# Altium footprint library Connector_Molex_Milligrid.PcbLib: 55 footprints (part 2 of 4)
Each footprint in its own frame and in the unit in brackets; x right, y up, seen from the top. Pads: shape width x height; smd on the part's side, far side on the other; paste and mask are expansions set on the pad; w line width, h text height; cw(c..) or ccw(c..) is an arc to the next point about the centre after c.
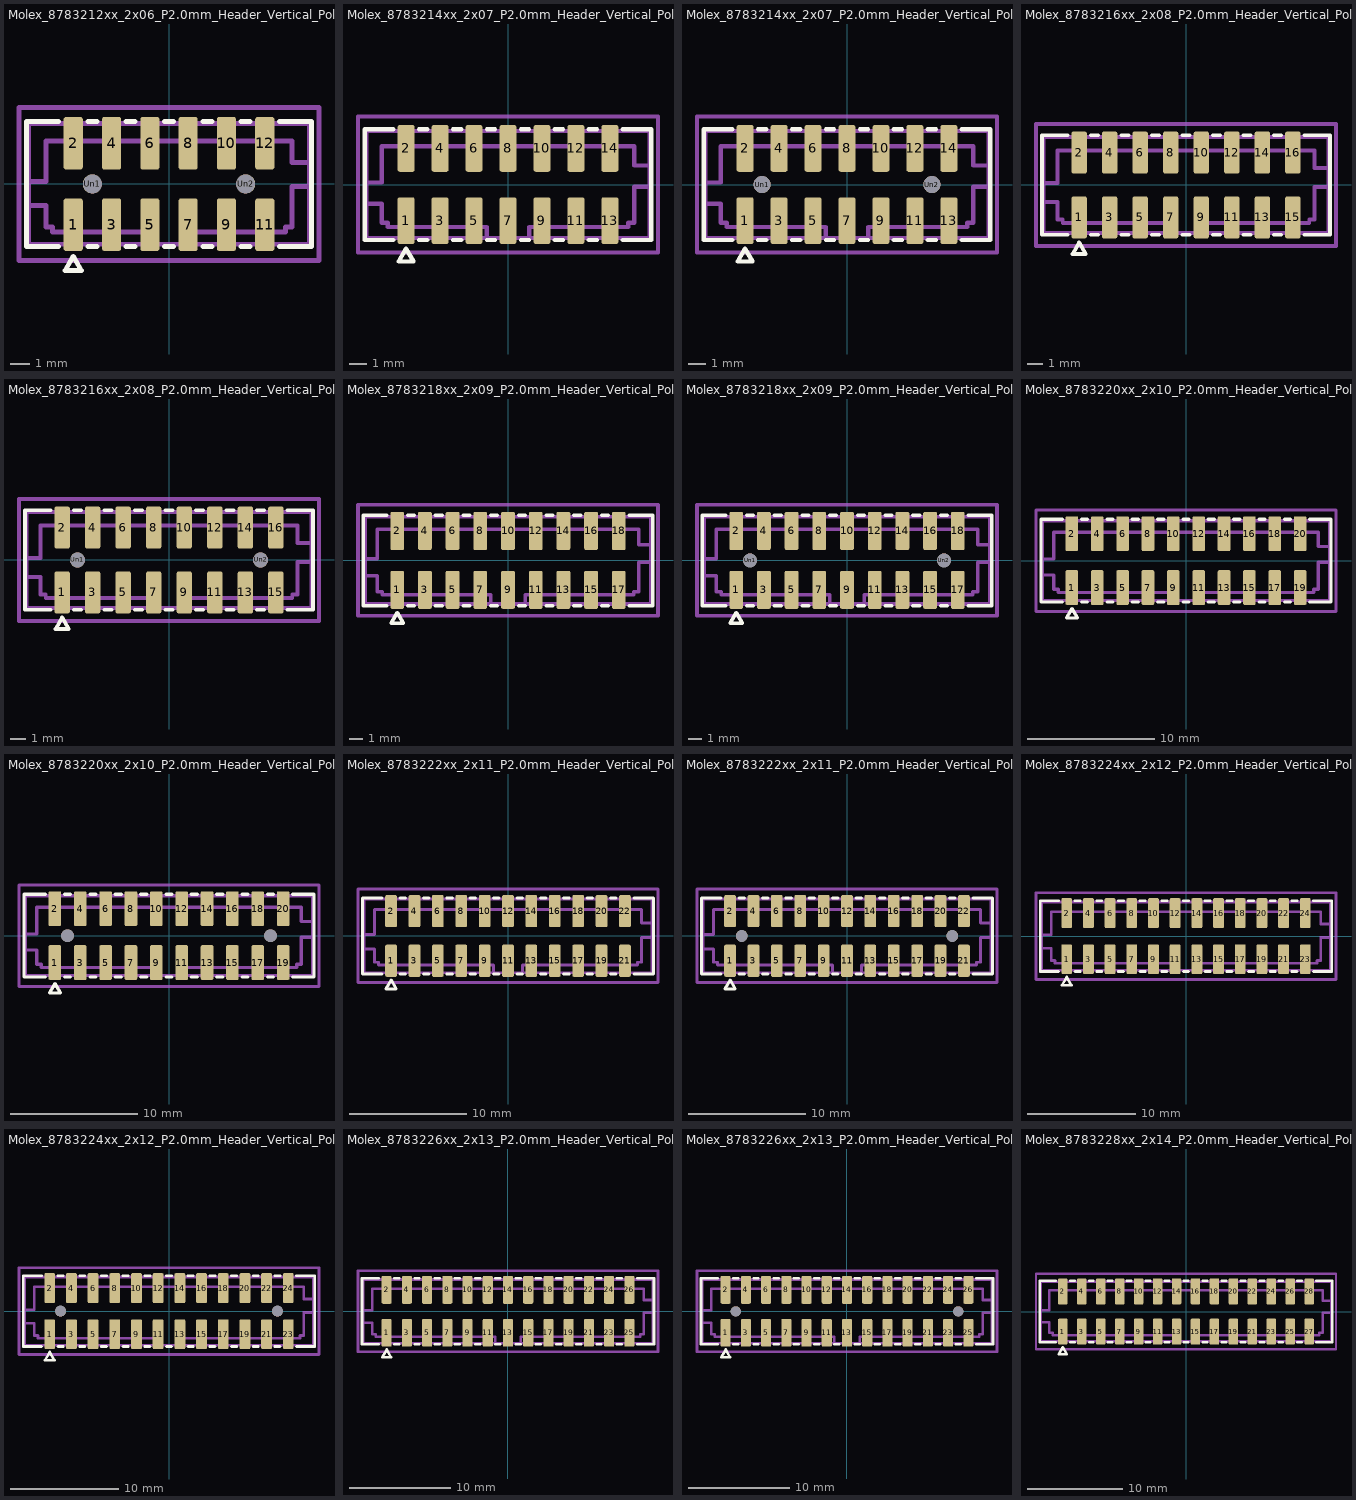
[diagram p1: the footprints below, top view; thin cyan lines are the x and y axes]

## Molex_8783212xx_2x06_P2.0mm_Header_Vertical_Polarized_MountingPegs [mm]
pads (14):
  rrect25% 1x2.75 smd: 1(-5,-2.125) 2(-5,2.125) 3(-3,-2.125) 4(-3,2.125) 5(-1,-2.125) 6(-1,2.125) 7(1,-2.125) 8(1,2.125) 9(3,-2.125) 10(3,2.125) 11(5,-2.125) 12(5,2.125)
  round 1 hole 1: Un1(-4,0) Un2(4,0)
F.SilkS:
  lines w0.254: -5.76,-3.26 -7.435,-3.26 -7.435,3.26 -5.76,3.26 ; -4.24,-3.26 -3.76,-3.26 ; -4.24,3.26 -3.76,3.26 ; -2.24,-3.26 -1.76,-3.26 ; -2.24,3.26 -1.76,3.26 ; -0.24,-3.26 0.24,-3.26 ; -0.24,3.26 0.24,3.26 ; 1.76,-3.26 2.24,-3.26 ; 1.76,3.26 2.24,3.26 ; 3.76,-3.26 4.24,-3.26 ; 3.76,3.26 4.24,3.26 ; 5.76,-3.26 7.435,-3.26 7.435,3.26 5.76,3.26 ; -5.433,-4.525 -4.567,-4.525 -5,-3.775 -5.433,-4.525
Top Assembly:
  lines w0.254: -7.325,-1.125 -6.425,-1.125 -6.425,-2.25 -6.075,-2.25 -6.075,-2.5 -1.25,-2.5 -1.25,-3.15 ; -7.325,0.125 -6.425,0.125 -6.425,2.25 6.425,2.25 6.425,1.125 7.325,1.125 ; -5.325,-3.15 -5,-2.5 -4.675,-3.15 ; 1.25,-3.15 1.25,-2.5 6.075,-2.5 6.075,-2.25 6.425,-2.25 6.425,-0.125 7.325,-0.125 ; -7.325,-3.15 7.325,-3.15 7.325,3.15 -7.325,3.15 -7.325,-3.15
  text "'.Designator'" at -4.047,-0.84 h1
Top Courtyard:
  lines w0.254: -7.83,-4 7.83,-4 7.83,4 -7.83,4 -7.83,-4
Top Designator:
  text ".Designator" at -7.618,-0.77 h1.52

## Molex_8783214xx_2x07_P2.0mm_Header_Vertical_Polarized [mm]
pads (14):
  rrect25% 1x2.75 smd: 1(-6,-2.125) 2(-6,2.125) 3(-4,-2.125) 4(-4,2.125) 5(-2,-2.125) 6(-2,2.125) 7(0,-2.125) 8(0,2.125) 9(2,-2.125) 10(2,2.125) 11(4,-2.125) 12(4,2.125) 13(6,-2.125) 14(6,2.125)
F.SilkS:
  lines w0.254: -6.76,-3.26 -8.435,-3.26 -8.435,3.26 -6.76,3.26 ; -5.24,-3.26 -4.76,-3.26 ; -5.24,3.26 -4.76,3.26 ; -3.24,-3.26 -2.76,-3.26 ; -3.24,3.26 -2.76,3.26 ; -1.24,-3.26 -0.76,-3.26 ; -1.24,3.26 -0.76,3.26 ; 0.76,-3.26 1.24,-3.26 ; 0.76,3.26 1.24,3.26 ; 2.76,-3.26 3.24,-3.26 ; 2.76,3.26 3.24,3.26 ; 4.76,-3.26 5.24,-3.26 ; 4.76,3.26 5.24,3.26 ; 6.76,-3.26 8.435,-3.26 8.435,3.26 6.76,3.26 ; -6.433,-4.525 -5.567,-4.525 -6,-3.775 -6.433,-4.525
Top Assembly:
  lines w0.254: -8.325,-1.125 -7.425,-1.125 -7.425,-2.25 -7.075,-2.25 -7.075,-2.5 -1.25,-2.5 -1.25,-3.15 ; -8.325,0.125 -7.425,0.125 -7.425,2.25 7.425,2.25 7.425,1.125 8.325,1.125 ; -6.325,-3.15 -6,-2.5 -5.675,-3.15 ; 1.25,-3.15 1.25,-2.5 7.075,-2.5 7.075,-2.25 7.425,-2.25 7.425,-0.125 8.325,-0.125 ; -8.325,-3.15 8.325,-3.15 8.325,3.15 -8.325,3.15 -8.325,-3.15
  text "'.Designator'" at -4.047,-0.84 h1
Top Courtyard:
  lines w0.254: -8.83,-4 8.83,-4 8.83,4 -8.83,4 -8.83,-4
Top Designator:
  text ".Designator" at -7.618,-0.77 h1.52

## Molex_8783214xx_2x07_P2.0mm_Header_Vertical_Polarized_MountingPegs [mm]
pads (16):
  rrect25% 1x2.75 smd: 1(-6,-2.125) 2(-6,2.125) 3(-4,-2.125) 4(-4,2.125) 5(-2,-2.125) 6(-2,2.125) 7(0,-2.125) 8(0,2.125) 9(2,-2.125) 10(2,2.125) 11(4,-2.125) 12(4,2.125) 13(6,-2.125) 14(6,2.125)
  round 1 hole 1: Un1(-5,0) Un2(5,0)
F.SilkS:
  lines w0.254: -6.76,-3.26 -8.435,-3.26 -8.435,3.26 -6.76,3.26 ; -5.24,-3.26 -4.76,-3.26 ; -5.24,3.26 -4.76,3.26 ; -3.24,-3.26 -2.76,-3.26 ; -3.24,3.26 -2.76,3.26 ; -1.24,-3.26 -0.76,-3.26 ; -1.24,3.26 -0.76,3.26 ; 0.76,-3.26 1.24,-3.26 ; 0.76,3.26 1.24,3.26 ; 2.76,-3.26 3.24,-3.26 ; 2.76,3.26 3.24,3.26 ; 4.76,-3.26 5.24,-3.26 ; 4.76,3.26 5.24,3.26 ; 6.76,-3.26 8.435,-3.26 8.435,3.26 6.76,3.26 ; -6.433,-4.525 -5.567,-4.525 -6,-3.775 -6.433,-4.525
Top Assembly:
  lines w0.254: -8.325,-1.125 -7.425,-1.125 -7.425,-2.25 -7.075,-2.25 -7.075,-2.5 -1.25,-2.5 -1.25,-3.15 ; -8.325,0.125 -7.425,0.125 -7.425,2.25 7.425,2.25 7.425,1.125 8.325,1.125 ; -6.325,-3.15 -6,-2.5 -5.675,-3.15 ; 1.25,-3.15 1.25,-2.5 7.075,-2.5 7.075,-2.25 7.425,-2.25 7.425,-0.125 8.325,-0.125 ; -8.325,-3.15 8.325,-3.15 8.325,3.15 -8.325,3.15 -8.325,-3.15
  text "'.Designator'" at -4.047,-0.84 h1
Top Courtyard:
  lines w0.254: -8.83,-4 8.83,-4 8.83,4 -8.83,4 -8.83,-4
Top Designator:
  text ".Designator" at -7.618,-0.77 h1.52

## Molex_8783216xx_2x08_P2.0mm_Header_Vertical_Polarized [mm]
pads (16):
  rrect25% 1x2.75 smd: 1(-7,-2.125) 2(-7,2.125) 3(-5,-2.125) 4(-5,2.125) 5(-3,-2.125) 6(-3,2.125) 7(-1,-2.125) 8(-1,2.125) 9(1,-2.125) 10(1,2.125) 11(3,-2.125) 12(3,2.125) 13(5,-2.125) 14(5,2.125) 15(7,-2.125) 16(7,2.125)
F.SilkS:
  lines w0.254: -7.76,-3.26 -9.435,-3.26 -9.435,3.26 -7.76,3.26 ; -6.24,-3.26 -5.76,-3.26 ; -6.24,3.26 -5.76,3.26 ; -4.24,-3.26 -3.76,-3.26 ; -4.24,3.26 -3.76,3.26 ; -2.24,-3.26 -1.76,-3.26 ; -2.24,3.26 -1.76,3.26 ; -0.24,-3.26 0.24,-3.26 ; -0.24,3.26 0.24,3.26 ; 1.76,-3.26 2.24,-3.26 ; 1.76,3.26 2.24,3.26 ; 3.76,-3.26 4.24,-3.26 ; 3.76,3.26 4.24,3.26 ; 5.76,-3.26 6.24,-3.26 ; 5.76,3.26 6.24,3.26 ; 7.76,-3.26 9.435,-3.26 9.435,3.26 7.76,3.26 ; -7.433,-4.525 -6.567,-4.525 -7,-3.775 -7.433,-4.525
Top Assembly:
  lines w0.254: -9.325,-1.125 -8.425,-1.125 -8.425,-2.25 -8.075,-2.25 -8.075,-2.5 -1.25,-2.5 -1.25,-3.15 ; -9.325,0.125 -8.425,0.125 -8.425,2.25 8.425,2.25 8.425,1.125 9.325,1.125 ; -7.325,-3.15 -7,-2.5 -6.675,-3.15 ; 1.25,-3.15 1.25,-2.5 8.075,-2.5 8.075,-2.25 8.425,-2.25 8.425,-0.125 9.325,-0.125 ; -9.325,-3.15 9.325,-3.15 9.325,3.15 -9.325,3.15 -9.325,-3.15
  text "'.Designator'" at -4.047,-0.84 h1
Top Courtyard:
  lines w0.254: -9.83,-4 9.83,-4 9.83,4 -9.83,4 -9.83,-4
Top Designator:
  text ".Designator" at -7.618,-0.77 h1.52

## Molex_8783216xx_2x08_P2.0mm_Header_Vertical_Polarized_MountingPegs [mm]
pads (18):
  rrect25% 1x2.75 smd: 1(-7,-2.125) 2(-7,2.125) 3(-5,-2.125) 4(-5,2.125) 5(-3,-2.125) 6(-3,2.125) 7(-1,-2.125) 8(-1,2.125) 9(1,-2.125) 10(1,2.125) 11(3,-2.125) 12(3,2.125) 13(5,-2.125) 14(5,2.125) 15(7,-2.125) 16(7,2.125)
  round 1 hole 1: Un1(-6,0) Un2(6,0)
F.SilkS:
  lines w0.254: -7.76,-3.26 -9.435,-3.26 -9.435,3.26 -7.76,3.26 ; -6.24,-3.26 -5.76,-3.26 ; -6.24,3.26 -5.76,3.26 ; -4.24,-3.26 -3.76,-3.26 ; -4.24,3.26 -3.76,3.26 ; -2.24,-3.26 -1.76,-3.26 ; -2.24,3.26 -1.76,3.26 ; -0.24,-3.26 0.24,-3.26 ; -0.24,3.26 0.24,3.26 ; 1.76,-3.26 2.24,-3.26 ; 1.76,3.26 2.24,3.26 ; 3.76,-3.26 4.24,-3.26 ; 3.76,3.26 4.24,3.26 ; 5.76,-3.26 6.24,-3.26 ; 5.76,3.26 6.24,3.26 ; 7.76,-3.26 9.435,-3.26 9.435,3.26 7.76,3.26 ; -7.433,-4.525 -6.567,-4.525 -7,-3.775 -7.433,-4.525
Top Assembly:
  lines w0.254: -9.325,-1.125 -8.425,-1.125 -8.425,-2.25 -8.075,-2.25 -8.075,-2.5 -1.25,-2.5 -1.25,-3.15 ; -9.325,0.125 -8.425,0.125 -8.425,2.25 8.425,2.25 8.425,1.125 9.325,1.125 ; -7.325,-3.15 -7,-2.5 -6.675,-3.15 ; 1.25,-3.15 1.25,-2.5 8.075,-2.5 8.075,-2.25 8.425,-2.25 8.425,-0.125 9.325,-0.125 ; -9.325,-3.15 9.325,-3.15 9.325,3.15 -9.325,3.15 -9.325,-3.15
  text "'.Designator'" at -4.047,-0.84 h1
Top Courtyard:
  lines w0.254: -9.83,-4 9.83,-4 9.83,4 -9.83,4 -9.83,-4
Top Designator:
  text ".Designator" at -7.618,-0.77 h1.52

## Molex_8783218xx_2x09_P2.0mm_Header_Vertical_Polarized [mm]
pads (18):
  rrect25% 1x2.75 smd: 1(-8,-2.125) 2(-8,2.125) 3(-6,-2.125) 4(-6,2.125) 5(-4,-2.125) 6(-4,2.125) 7(-2,-2.125) 8(-2,2.125) 9(0,-2.125) 10(0,2.125) 11(2,-2.125) 12(2,2.125) 13(4,-2.125) 14(4,2.125) 15(6,-2.125) 16(6,2.125) 17(8,-2.125) 18(8,2.125)
F.SilkS:
  lines w0.254: -8.76,-3.26 -10.435,-3.26 -10.435,3.26 -8.76,3.26 ; -7.24,-3.26 -6.76,-3.26 ; -7.24,3.26 -6.76,3.26 ; -5.24,-3.26 -4.76,-3.26 ; -5.24,3.26 -4.76,3.26 ; -3.24,-3.26 -2.76,-3.26 ; -3.24,3.26 -2.76,3.26 ; -1.24,-3.26 -0.76,-3.26 ; -1.24,3.26 -0.76,3.26 ; 0.76,-3.26 1.24,-3.26 ; 0.76,3.26 1.24,3.26 ; 2.76,-3.26 3.24,-3.26 ; 2.76,3.26 3.24,3.26 ; 4.76,-3.26 5.24,-3.26 ; 4.76,3.26 5.24,3.26 ; 6.76,-3.26 7.24,-3.26 ; 6.76,3.26 7.24,3.26 ; 8.76,-3.26 10.435,-3.26 10.435,3.26 8.76,3.26 ; -8.433,-4.525 -7.567,-4.525 -8,-3.775 -8.433,-4.525
Top Assembly:
  lines w0.254: -10.325,-1.125 -9.425,-1.125 -9.425,-2.25 -9.075,-2.25 -9.075,-2.5 -1.25,-2.5 -1.25,-3.15 ; -10.325,0.125 -9.425,0.125 -9.425,2.25 9.425,2.25 9.425,1.125 10.325,1.125 ; -8.325,-3.15 -8,-2.5 -7.675,-3.15 ; 1.25,-3.15 1.25,-2.5 9.075,-2.5 9.075,-2.25 9.425,-2.25 9.425,-0.125 10.325,-0.125 ; -10.325,-3.15 10.325,-3.15 10.325,3.15 -10.325,3.15 -10.325,-3.15
  text "'.Designator'" at -4.047,-0.84 h1
Top Courtyard:
  lines w0.254: -10.83,-4 10.83,-4 10.83,4 -10.83,4 -10.83,-4
Top Designator:
  text ".Designator" at -7.618,-0.77 h1.52

## Molex_8783218xx_2x09_P2.0mm_Header_Vertical_Polarized_MountingPegs [mm]
pads (20):
  rrect25% 1x2.75 smd: 1(-8,-2.125) 2(-8,2.125) 3(-6,-2.125) 4(-6,2.125) 5(-4,-2.125) 6(-4,2.125) 7(-2,-2.125) 8(-2,2.125) 9(0,-2.125) 10(0,2.125) 11(2,-2.125) 12(2,2.125) 13(4,-2.125) 14(4,2.125) 15(6,-2.125) 16(6,2.125) 17(8,-2.125) 18(8,2.125)
  round 1 hole 1: Un1(-7,0) Un2(7,0)
F.SilkS:
  lines w0.254: -8.76,-3.26 -10.435,-3.26 -10.435,3.26 -8.76,3.26 ; -7.24,-3.26 -6.76,-3.26 ; -7.24,3.26 -6.76,3.26 ; -5.24,-3.26 -4.76,-3.26 ; -5.24,3.26 -4.76,3.26 ; -3.24,-3.26 -2.76,-3.26 ; -3.24,3.26 -2.76,3.26 ; -1.24,-3.26 -0.76,-3.26 ; -1.24,3.26 -0.76,3.26 ; 0.76,-3.26 1.24,-3.26 ; 0.76,3.26 1.24,3.26 ; 2.76,-3.26 3.24,-3.26 ; 2.76,3.26 3.24,3.26 ; 4.76,-3.26 5.24,-3.26 ; 4.76,3.26 5.24,3.26 ; 6.76,-3.26 7.24,-3.26 ; 6.76,3.26 7.24,3.26 ; 8.76,-3.26 10.435,-3.26 10.435,3.26 8.76,3.26 ; -8.433,-4.525 -7.567,-4.525 -8,-3.775 -8.433,-4.525
Top Assembly:
  lines w0.254: -10.325,-1.125 -9.425,-1.125 -9.425,-2.25 -9.075,-2.25 -9.075,-2.5 -1.25,-2.5 -1.25,-3.15 ; -10.325,0.125 -9.425,0.125 -9.425,2.25 9.425,2.25 9.425,1.125 10.325,1.125 ; -8.325,-3.15 -8,-2.5 -7.675,-3.15 ; 1.25,-3.15 1.25,-2.5 9.075,-2.5 9.075,-2.25 9.425,-2.25 9.425,-0.125 10.325,-0.125 ; -10.325,-3.15 10.325,-3.15 10.325,3.15 -10.325,3.15 -10.325,-3.15
  text "'.Designator'" at -4.047,-0.84 h1
Top Courtyard:
  lines w0.254: -10.83,-4 10.83,-4 10.83,4 -10.83,4 -10.83,-4
Top Designator:
  text ".Designator" at -7.618,-0.77 h1.52

## Molex_8783220xx_2x10_P2.0mm_Header_Vertical_Polarized [mm]
pads (20):
  rrect25% 1x2.75 smd: 1(-9,-2.125) 2(-9,2.125) 3(-7,-2.125) 4(-7,2.125) 5(-5,-2.125) 6(-5,2.125) 7(-3,-2.125) 8(-3,2.125) 9(-1,-2.125) 10(-1,2.125) 11(1,-2.125) 12(1,2.125) 13(3,-2.125) 14(3,2.125) 15(5,-2.125) 16(5,2.125) 17(7,-2.125) 18(7,2.125) 19(9,-2.125) 20(9,2.125)
F.SilkS:
  lines w0.254: -9.76,-3.26 -11.435,-3.26 -11.435,3.26 -9.76,3.26 ; -8.24,-3.26 -7.76,-3.26 ; -8.24,3.26 -7.76,3.26 ; -6.24,-3.26 -5.76,-3.26 ; -6.24,3.26 -5.76,3.26 ; -4.24,-3.26 -3.76,-3.26 ; -4.24,3.26 -3.76,3.26 ; -2.24,-3.26 -1.76,-3.26 ; -2.24,3.26 -1.76,3.26 ; -0.24,-3.26 0.24,-3.26 ; -0.24,3.26 0.24,3.26 ; 1.76,-3.26 2.24,-3.26 ; 1.76,3.26 2.24,3.26 ; 3.76,-3.26 4.24,-3.26 ; 3.76,3.26 4.24,3.26 ; 5.76,-3.26 6.24,-3.26 ; 5.76,3.26 6.24,3.26 ; 7.76,-3.26 8.24,-3.26 ; 7.76,3.26 8.24,3.26 ; 9.76,-3.26 11.435,-3.26 11.435,3.26 9.76,3.26 ; -9.433,-4.525 -8.567,-4.525 -9,-3.775 -9.433,-4.525
Top Assembly:
  lines w0.254: -11.325,-1.125 -10.425,-1.125 -10.425,-2.25 -10.075,-2.25 -10.075,-2.5 -1.25,-2.5 -1.25,-3.15 ; -11.325,0.125 -10.425,0.125 -10.425,2.25 10.425,2.25 10.425,1.125 11.325,1.125 ; -9.325,-3.15 -9,-2.5 -8.675,-3.15 ; 1.25,-3.15 1.25,-2.5 10.075,-2.5 10.075,-2.25 10.425,-2.25 10.425,-0.125 11.325,-0.125 ; -11.325,-3.15 11.325,-3.15 11.325,3.15 -11.325,3.15 -11.325,-3.15
  text "'.Designator'" at -4.047,-0.84 h1
Top Courtyard:
  lines w0.254: -11.83,-4 11.83,-4 11.83,4 -11.83,4 -11.83,-4
Top Designator:
  text ".Designator" at -7.618,-0.77 h1.52

## Molex_8783220xx_2x10_P2.0mm_Header_Vertical_Polarized_MountingPegs [mm]
pads (22):
  rrect25% 1x2.75 smd: 1(-9,-2.125) 2(-9,2.125) 3(-7,-2.125) 4(-7,2.125) 5(-5,-2.125) 6(-5,2.125) 7(-3,-2.125) 8(-3,2.125) 9(-1,-2.125) 10(-1,2.125) 11(1,-2.125) 12(1,2.125) 13(3,-2.125) 14(3,2.125) 15(5,-2.125) 16(5,2.125) 17(7,-2.125) 18(7,2.125) 19(9,-2.125) 20(9,2.125)
  round 1 hole 1: Un1(-8,0) Un2(8,0)
F.SilkS:
  lines w0.254: -9.76,-3.26 -11.435,-3.26 -11.435,3.26 -9.76,3.26 ; -8.24,-3.26 -7.76,-3.26 ; -8.24,3.26 -7.76,3.26 ; -6.24,-3.26 -5.76,-3.26 ; -6.24,3.26 -5.76,3.26 ; -4.24,-3.26 -3.76,-3.26 ; -4.24,3.26 -3.76,3.26 ; -2.24,-3.26 -1.76,-3.26 ; -2.24,3.26 -1.76,3.26 ; -0.24,-3.26 0.24,-3.26 ; -0.24,3.26 0.24,3.26 ; 1.76,-3.26 2.24,-3.26 ; 1.76,3.26 2.24,3.26 ; 3.76,-3.26 4.24,-3.26 ; 3.76,3.26 4.24,3.26 ; 5.76,-3.26 6.24,-3.26 ; 5.76,3.26 6.24,3.26 ; 7.76,-3.26 8.24,-3.26 ; 7.76,3.26 8.24,3.26 ; 9.76,-3.26 11.435,-3.26 11.435,3.26 9.76,3.26 ; -9.433,-4.525 -8.567,-4.525 -9,-3.775 -9.433,-4.525
Top Assembly:
  lines w0.254: -11.325,-1.125 -10.425,-1.125 -10.425,-2.25 -10.075,-2.25 -10.075,-2.5 -1.25,-2.5 -1.25,-3.15 ; -11.325,0.125 -10.425,0.125 -10.425,2.25 10.425,2.25 10.425,1.125 11.325,1.125 ; -9.325,-3.15 -9,-2.5 -8.675,-3.15 ; 1.25,-3.15 1.25,-2.5 10.075,-2.5 10.075,-2.25 10.425,-2.25 10.425,-0.125 11.325,-0.125 ; -11.325,-3.15 11.325,-3.15 11.325,3.15 -11.325,3.15 -11.325,-3.15
  text "'.Designator'" at -4.047,-0.84 h1
Top Courtyard:
  lines w0.254: -11.83,-4 11.83,-4 11.83,4 -11.83,4 -11.83,-4
Top Designator:
  text ".Designator" at -7.618,-0.77 h1.52

## Molex_8783222xx_2x11_P2.0mm_Header_Vertical_Polarized [mm]
pads (22):
  rrect25% 1x2.75 smd: 1(-10,-2.125) 2(-10,2.125) 3(-8,-2.125) 4(-8,2.125) 5(-6,-2.125) 6(-6,2.125) 7(-4,-2.125) 8(-4,2.125) 9(-2,-2.125) 10(-2,2.125) 11(0,-2.125) 12(0,2.125) 13(2,-2.125) 14(2,2.125) 15(4,-2.125) 16(4,2.125) 17(6,-2.125) 18(6,2.125) 19(8,-2.125) 20(8,2.125) 21(10,-2.125) 22(10,2.125)
F.SilkS:
  lines w0.254: -10.76,-3.26 -12.435,-3.26 -12.435,3.26 -10.76,3.26 ; -9.24,-3.26 -8.76,-3.26 ; -9.24,3.26 -8.76,3.26 ; -7.24,-3.26 -6.76,-3.26 ; -7.24,3.26 -6.76,3.26 ; -5.24,-3.26 -4.76,-3.26 ; -5.24,3.26 -4.76,3.26 ; -3.24,-3.26 -2.76,-3.26 ; -3.24,3.26 -2.76,3.26 ; -1.24,-3.26 -0.76,-3.26 ; -1.24,3.26 -0.76,3.26 ; 0.76,-3.26 1.24,-3.26 ; 0.76,3.26 1.24,3.26 ; 2.76,-3.26 3.24,-3.26 ; 2.76,3.26 3.24,3.26 ; 4.76,-3.26 5.24,-3.26 ; 4.76,3.26 5.24,3.26 ; 6.76,-3.26 7.24,-3.26 ; 6.76,3.26 7.24,3.26 ; 8.76,-3.26 9.24,-3.26 ; 8.76,3.26 9.24,3.26 ; 10.76,-3.26 12.435,-3.26 12.435,3.26 10.76,3.26 ; -10.433,-4.525 -9.567,-4.525 -10,-3.775 -10.433,-4.525
Top Assembly:
  lines w0.254: -12.325,-1.125 -11.425,-1.125 -11.425,-2.25 -11.075,-2.25 -11.075,-2.5 -1.25,-2.5 -1.25,-3.15 ; -12.325,0.125 -11.425,0.125 -11.425,2.25 11.425,2.25 11.425,1.125 12.325,1.125 ; -10.325,-3.15 -10,-2.5 -9.675,-3.15 ; 1.25,-3.15 1.25,-2.5 11.075,-2.5 11.075,-2.25 11.425,-2.25 11.425,-0.125 12.325,-0.125 ; -12.325,-3.15 12.325,-3.15 12.325,3.15 -12.325,3.15 -12.325,-3.15
  text "'.Designator'" at -4.047,-0.84 h1
Top Courtyard:
  lines w0.254: -12.83,-4 12.83,-4 12.83,4 -12.83,4 -12.83,-4
Top Designator:
  text ".Designator" at -7.618,-0.77 h1.52

## Molex_8783222xx_2x11_P2.0mm_Header_Vertical_Polarized_MountingPegs [mm]
pads (24):
  rrect25% 1x2.75 smd: 1(-10,-2.125) 2(-10,2.125) 3(-8,-2.125) 4(-8,2.125) 5(-6,-2.125) 6(-6,2.125) 7(-4,-2.125) 8(-4,2.125) 9(-2,-2.125) 10(-2,2.125) 11(0,-2.125) 12(0,2.125) 13(2,-2.125) 14(2,2.125) 15(4,-2.125) 16(4,2.125) 17(6,-2.125) 18(6,2.125) 19(8,-2.125) 20(8,2.125) 21(10,-2.125) 22(10,2.125)
  round 1 hole 1: Un1(-9,0) Un2(9,0)
F.SilkS:
  lines w0.254: -10.76,-3.26 -12.435,-3.26 -12.435,3.26 -10.76,3.26 ; -9.24,-3.26 -8.76,-3.26 ; -9.24,3.26 -8.76,3.26 ; -7.24,-3.26 -6.76,-3.26 ; -7.24,3.26 -6.76,3.26 ; -5.24,-3.26 -4.76,-3.26 ; -5.24,3.26 -4.76,3.26 ; -3.24,-3.26 -2.76,-3.26 ; -3.24,3.26 -2.76,3.26 ; -1.24,-3.26 -0.76,-3.26 ; -1.24,3.26 -0.76,3.26 ; 0.76,-3.26 1.24,-3.26 ; 0.76,3.26 1.24,3.26 ; 2.76,-3.26 3.24,-3.26 ; 2.76,3.26 3.24,3.26 ; 4.76,-3.26 5.24,-3.26 ; 4.76,3.26 5.24,3.26 ; 6.76,-3.26 7.24,-3.26 ; 6.76,3.26 7.24,3.26 ; 8.76,-3.26 9.24,-3.26 ; 8.76,3.26 9.24,3.26 ; 10.76,-3.26 12.435,-3.26 12.435,3.26 10.76,3.26 ; -10.433,-4.525 -9.567,-4.525 -10,-3.775 -10.433,-4.525
Top Assembly:
  lines w0.254: -12.325,-1.125 -11.425,-1.125 -11.425,-2.25 -11.075,-2.25 -11.075,-2.5 -1.25,-2.5 -1.25,-3.15 ; -12.325,0.125 -11.425,0.125 -11.425,2.25 11.425,2.25 11.425,1.125 12.325,1.125 ; -10.325,-3.15 -10,-2.5 -9.675,-3.15 ; 1.25,-3.15 1.25,-2.5 11.075,-2.5 11.075,-2.25 11.425,-2.25 11.425,-0.125 12.325,-0.125 ; -12.325,-3.15 12.325,-3.15 12.325,3.15 -12.325,3.15 -12.325,-3.15
  text "'.Designator'" at -4.047,-0.84 h1
Top Courtyard:
  lines w0.254: -12.83,-4 12.83,-4 12.83,4 -12.83,4 -12.83,-4
Top Designator:
  text ".Designator" at -7.618,-0.77 h1.52

## Molex_8783224xx_2x12_P2.0mm_Header_Vertical_Polarized [mm]
pads (24):
  rrect25% 1x2.75 smd: 1(-11,-2.125) 2(-11,2.125) 3(-9,-2.125) 4(-9,2.125) 5(-7,-2.125) 6(-7,2.125) 7(-5,-2.125) 8(-5,2.125) 9(-3,-2.125) 10(-3,2.125) 11(-1,-2.125) 12(-1,2.125) 13(1,-2.125) 14(1,2.125) 15(3,-2.125) 16(3,2.125) 17(5,-2.125) 18(5,2.125) 19(7,-2.125) 20(7,2.125) 21(9,-2.125) 22(9,2.125) 23(11,-2.125) 24(11,2.125)
F.SilkS:
  lines w0.254: -11.76,-3.26 -13.435,-3.26 -13.435,3.26 -11.76,3.26 ; -10.24,-3.26 -9.76,-3.26 ; -10.24,3.26 -9.76,3.26 ; -8.24,-3.26 -7.76,-3.26 ; -8.24,3.26 -7.76,3.26 ; -6.24,-3.26 -5.76,-3.26 ; -6.24,3.26 -5.76,3.26 ; -4.24,-3.26 -3.76,-3.26 ; -4.24,3.26 -3.76,3.26 ; -2.24,-3.26 -1.76,-3.26 ; -2.24,3.26 -1.76,3.26 ; -0.24,-3.26 0.24,-3.26 ; -0.24,3.26 0.24,3.26 ; 1.76,-3.26 2.24,-3.26 ; 1.76,3.26 2.24,3.26 ; 3.76,-3.26 4.24,-3.26 ; 3.76,3.26 4.24,3.26 ; 5.76,-3.26 6.24,-3.26 ; 5.76,3.26 6.24,3.26 ; 7.76,-3.26 8.24,-3.26 ; 7.76,3.26 8.24,3.26 ; 9.76,-3.26 10.24,-3.26 ; 9.76,3.26 10.24,3.26 ; 11.76,-3.26 13.435,-3.26 13.435,3.26 11.76,3.26 ; -11.433,-4.525 -10.567,-4.525 -11,-3.775 -11.433,-4.525
Top Assembly:
  lines w0.254: -13.325,-1.125 -12.425,-1.125 -12.425,-2.25 -12.075,-2.25 -12.075,-2.5 -1.25,-2.5 -1.25,-3.15 ; -13.325,0.125 -12.425,0.125 -12.425,2.25 12.425,2.25 12.425,1.125 13.325,1.125 ; -11.325,-3.15 -11,-2.5 -10.675,-3.15 ; 1.25,-3.15 1.25,-2.5 12.075,-2.5 12.075,-2.25 12.425,-2.25 12.425,-0.125 13.325,-0.125 ; -13.325,-3.15 13.325,-3.15 13.325,3.15 -13.325,3.15 -13.325,-3.15
  text "'.Designator'" at -4.047,-0.84 h1
Top Courtyard:
  lines w0.254: -13.83,-4 13.83,-4 13.83,4 -13.83,4 -13.83,-4
Top Designator:
  text ".Designator" at -7.618,-0.77 h1.52

## Molex_8783224xx_2x12_P2.0mm_Header_Vertical_Polarized_MountingPegs [mm]
pads (26):
  rrect25% 1x2.75 smd: 1(-11,-2.125) 2(-11,2.125) 3(-9,-2.125) 4(-9,2.125) 5(-7,-2.125) 6(-7,2.125) 7(-5,-2.125) 8(-5,2.125) 9(-3,-2.125) 10(-3,2.125) 11(-1,-2.125) 12(-1,2.125) 13(1,-2.125) 14(1,2.125) 15(3,-2.125) 16(3,2.125) 17(5,-2.125) 18(5,2.125) 19(7,-2.125) 20(7,2.125) 21(9,-2.125) 22(9,2.125) 23(11,-2.125) 24(11,2.125)
  round 1 hole 1: Un1(-10,0) Un2(10,0)
F.SilkS:
  lines w0.254: -11.76,-3.26 -13.435,-3.26 -13.435,3.26 -11.76,3.26 ; -10.24,-3.26 -9.76,-3.26 ; -10.24,3.26 -9.76,3.26 ; -8.24,-3.26 -7.76,-3.26 ; -8.24,3.26 -7.76,3.26 ; -6.24,-3.26 -5.76,-3.26 ; -6.24,3.26 -5.76,3.26 ; -4.24,-3.26 -3.76,-3.26 ; -4.24,3.26 -3.76,3.26 ; -2.24,-3.26 -1.76,-3.26 ; -2.24,3.26 -1.76,3.26 ; -0.24,-3.26 0.24,-3.26 ; -0.24,3.26 0.24,3.26 ; 1.76,-3.26 2.24,-3.26 ; 1.76,3.26 2.24,3.26 ; 3.76,-3.26 4.24,-3.26 ; 3.76,3.26 4.24,3.26 ; 5.76,-3.26 6.24,-3.26 ; 5.76,3.26 6.24,3.26 ; 7.76,-3.26 8.24,-3.26 ; 7.76,3.26 8.24,3.26 ; 9.76,-3.26 10.24,-3.26 ; 9.76,3.26 10.24,3.26 ; 11.76,-3.26 13.435,-3.26 13.435,3.26 11.76,3.26 ; -11.433,-4.525 -10.567,-4.525 -11,-3.775 -11.433,-4.525
Top Assembly:
  lines w0.254: -13.325,-1.125 -12.425,-1.125 -12.425,-2.25 -12.075,-2.25 -12.075,-2.5 -1.25,-2.5 -1.25,-3.15 ; -13.325,0.125 -12.425,0.125 -12.425,2.25 12.425,2.25 12.425,1.125 13.325,1.125 ; -11.325,-3.15 -11,-2.5 -10.675,-3.15 ; 1.25,-3.15 1.25,-2.5 12.075,-2.5 12.075,-2.25 12.425,-2.25 12.425,-0.125 13.325,-0.125 ; -13.325,-3.15 13.325,-3.15 13.325,3.15 -13.325,3.15 -13.325,-3.15
  text "'.Designator'" at -4.047,-0.84 h1
Top Courtyard:
  lines w0.254: -13.83,-4 13.83,-4 13.83,4 -13.83,4 -13.83,-4
Top Designator:
  text ".Designator" at -7.618,-0.77 h1.52

## Molex_8783226xx_2x13_P2.0mm_Header_Vertical_Polarized [mm]
pads (26):
  rrect25% 1x2.75 smd: 1(-12,-2.125) 2(-12,2.125) 3(-10,-2.125) 4(-10,2.125) 5(-8,-2.125) 6(-8,2.125) 7(-6,-2.125) 8(-6,2.125) 9(-4,-2.125) 10(-4,2.125) 11(-2,-2.125) 12(-2,2.125) 13(0,-2.125) 14(0,2.125) 15(2,-2.125) 16(2,2.125) 17(4,-2.125) 18(4,2.125) 19(6,-2.125) 20(6,2.125) 21(8,-2.125) 22(8,2.125) 23(10,-2.125) 24(10,2.125) 25(12,-2.125) 26(12,2.125)
F.SilkS:
  lines w0.254: -12.76,-3.26 -14.435,-3.26 -14.435,3.26 -12.76,3.26 ; -11.24,-3.26 -10.76,-3.26 ; -11.24,3.26 -10.76,3.26 ; -9.24,-3.26 -8.76,-3.26 ; -9.24,3.26 -8.76,3.26 ; -7.24,-3.26 -6.76,-3.26 ; -7.24,3.26 -6.76,3.26 ; -5.24,-3.26 -4.76,-3.26 ; -5.24,3.26 -4.76,3.26 ; -3.24,-3.26 -2.76,-3.26 ; -3.24,3.26 -2.76,3.26 ; -1.24,-3.26 -0.76,-3.26 ; -1.24,3.26 -0.76,3.26 ; 0.76,-3.26 1.24,-3.26 ; 0.76,3.26 1.24,3.26 ; 2.76,-3.26 3.24,-3.26 ; 2.76,3.26 3.24,3.26 ; 4.76,-3.26 5.24,-3.26 ; 4.76,3.26 5.24,3.26 ; 6.76,-3.26 7.24,-3.26 ; 6.76,3.26 7.24,3.26 ; 8.76,-3.26 9.24,-3.26 ; 8.76,3.26 9.24,3.26 ; 10.76,-3.26 11.24,-3.26 ; 10.76,3.26 11.24,3.26 ; 12.76,-3.26 14.435,-3.26 14.435,3.26 12.76,3.26 ; -12.433,-4.525 -11.567,-4.525 -12,-3.775 -12.433,-4.525
Top Assembly:
  lines w0.254: -14.325,-1.125 -13.425,-1.125 -13.425,-2.25 -13.075,-2.25 -13.075,-2.5 -1.25,-2.5 -1.25,-3.15 ; -14.325,0.125 -13.425,0.125 -13.425,2.25 13.425,2.25 13.425,1.125 14.325,1.125 ; -12.325,-3.15 -12,-2.5 -11.675,-3.15 ; 1.25,-3.15 1.25,-2.5 13.075,-2.5 13.075,-2.25 13.425,-2.25 13.425,-0.125 14.325,-0.125 ; -14.325,-3.15 14.325,-3.15 14.325,3.15 -14.325,3.15 -14.325,-3.15
  text "'.Designator'" at -4.047,-0.84 h1
Top Courtyard:
  lines w0.254: -14.83,-4 14.83,-4 14.83,4 -14.83,4 -14.83,-4
Top Designator:
  text ".Designator" at -7.618,-0.77 h1.52

## Molex_8783226xx_2x13_P2.0mm_Header_Vertical_Polarized_MountingPegs [mm]
pads (28):
  rrect25% 1x2.75 smd: 1(-12,-2.125) 2(-12,2.125) 3(-10,-2.125) 4(-10,2.125) 5(-8,-2.125) 6(-8,2.125) 7(-6,-2.125) 8(-6,2.125) 9(-4,-2.125) 10(-4,2.125) 11(-2,-2.125) 12(-2,2.125) 13(0,-2.125) 14(0,2.125) 15(2,-2.125) 16(2,2.125) 17(4,-2.125) 18(4,2.125) 19(6,-2.125) 20(6,2.125) 21(8,-2.125) 22(8,2.125) 23(10,-2.125) 24(10,2.125) 25(12,-2.125) 26(12,2.125)
  round 1 hole 1: Un1(-11,0) Un2(11,0)
F.SilkS:
  lines w0.254: -12.76,-3.26 -14.435,-3.26 -14.435,3.26 -12.76,3.26 ; -11.24,-3.26 -10.76,-3.26 ; -11.24,3.26 -10.76,3.26 ; -9.24,-3.26 -8.76,-3.26 ; -9.24,3.26 -8.76,3.26 ; -7.24,-3.26 -6.76,-3.26 ; -7.24,3.26 -6.76,3.26 ; -5.24,-3.26 -4.76,-3.26 ; -5.24,3.26 -4.76,3.26 ; -3.24,-3.26 -2.76,-3.26 ; -3.24,3.26 -2.76,3.26 ; -1.24,-3.26 -0.76,-3.26 ; -1.24,3.26 -0.76,3.26 ; 0.76,-3.26 1.24,-3.26 ; 0.76,3.26 1.24,3.26 ; 2.76,-3.26 3.24,-3.26 ; 2.76,3.26 3.24,3.26 ; 4.76,-3.26 5.24,-3.26 ; 4.76,3.26 5.24,3.26 ; 6.76,-3.26 7.24,-3.26 ; 6.76,3.26 7.24,3.26 ; 8.76,-3.26 9.24,-3.26 ; 8.76,3.26 9.24,3.26 ; 10.76,-3.26 11.24,-3.26 ; 10.76,3.26 11.24,3.26 ; 12.76,-3.26 14.435,-3.26 14.435,3.26 12.76,3.26 ; -12.433,-4.525 -11.567,-4.525 -12,-3.775 -12.433,-4.525
Top Assembly:
  lines w0.254: -14.325,-1.125 -13.425,-1.125 -13.425,-2.25 -13.075,-2.25 -13.075,-2.5 -1.25,-2.5 -1.25,-3.15 ; -14.325,0.125 -13.425,0.125 -13.425,2.25 13.425,2.25 13.425,1.125 14.325,1.125 ; -12.325,-3.15 -12,-2.5 -11.675,-3.15 ; 1.25,-3.15 1.25,-2.5 13.075,-2.5 13.075,-2.25 13.425,-2.25 13.425,-0.125 14.325,-0.125 ; -14.325,-3.15 14.325,-3.15 14.325,3.15 -14.325,3.15 -14.325,-3.15
  text "'.Designator'" at -4.047,-0.84 h1
Top Courtyard:
  lines w0.254: -14.83,-4 14.83,-4 14.83,4 -14.83,4 -14.83,-4
Top Designator:
  text ".Designator" at -7.618,-0.77 h1.52

## Molex_8783228xx_2x14_P2.0mm_Header_Vertical_Polarized [mm]
pads (28):
  rrect25% 1x2.75 smd: 1(-13,-2.125) 2(-13,2.125) 3(-11,-2.125) 4(-11,2.125) 5(-9,-2.125) 6(-9,2.125) 7(-7,-2.125) 8(-7,2.125) 9(-5,-2.125) 10(-5,2.125) 11(-3,-2.125) 12(-3,2.125) 13(-1,-2.125) 14(-1,2.125) 15(1,-2.125) 16(1,2.125) 17(3,-2.125) 18(3,2.125) 19(5,-2.125) 20(5,2.125) 21(7,-2.125) 22(7,2.125) 23(9,-2.125) 24(9,2.125) 25(11,-2.125) 26(11,2.125) 27(13,-2.125) 28(13,2.125)
F.SilkS:
  lines w0.254: -13.76,-3.26 -15.435,-3.26 -15.435,3.26 -13.76,3.26 ; -12.24,-3.26 -11.76,-3.26 ; -12.24,3.26 -11.76,3.26 ; -10.24,-3.26 -9.76,-3.26 ; -10.24,3.26 -9.76,3.26 ; -8.24,-3.26 -7.76,-3.26 ; -8.24,3.26 -7.76,3.26 ; -6.24,-3.26 -5.76,-3.26 ; -6.24,3.26 -5.76,3.26 ; -4.24,-3.26 -3.76,-3.26 ; -4.24,3.26 -3.76,3.26 ; -2.24,-3.26 -1.76,-3.26 ; -2.24,3.26 -1.76,3.26 ; -0.24,-3.26 0.24,-3.26 ; -0.24,3.26 0.24,3.26 ; 1.76,-3.26 2.24,-3.26 ; 1.76,3.26 2.24,3.26 ; 3.76,-3.26 4.24,-3.26 ; 3.76,3.26 4.24,3.26 ; 5.76,-3.26 6.24,-3.26 ; 5.76,3.26 6.24,3.26 ; 7.76,-3.26 8.24,-3.26 ; 7.76,3.26 8.24,3.26 ; 9.76,-3.26 10.24,-3.26 ; 9.76,3.26 10.24,3.26 ; 11.76,-3.26 12.24,-3.26 ; 11.76,3.26 12.24,3.26 ; 13.76,-3.26 15.435,-3.26 15.435,3.26 13.76,3.26 ; -13.433,-4.525 -12.567,-4.525 -13,-3.775 -13.433,-4.525
Top Assembly:
  lines w0.254: -15.325,-1.125 -14.425,-1.125 -14.425,-2.25 -14.075,-2.25 -14.075,-2.5 -1.25,-2.5 -1.25,-3.15 ; -15.325,0.125 -14.425,0.125 -14.425,2.25 14.425,2.25 14.425,1.125 15.325,1.125 ; -13.325,-3.15 -13,-2.5 -12.675,-3.15 ; 1.25,-3.15 1.25,-2.5 14.075,-2.5 14.075,-2.25 14.425,-2.25 14.425,-0.125 15.325,-0.125 ; -15.325,-3.15 15.325,-3.15 15.325,3.15 -15.325,3.15 -15.325,-3.15
  text "'.Designator'" at -4.047,-0.84 h1
Top Courtyard:
  lines w0.254: -15.83,-4 15.83,-4 15.83,4 -15.83,4 -15.83,-4
Top Designator:
  text ".Designator" at -7.618,-0.77 h1.52